# Altium footprint library SIRA99D.PcbLib: 1 footprints
Each footprint in its own frame and in the unit in brackets; x right, y up, seen from the top. Pads: shape width x height; smd on the part's side, far side on the other; paste and mask are expansions set on the pad; w line width, h text height; cw(c..) or ccw(c..) is an arc to the next point about the centre after c.
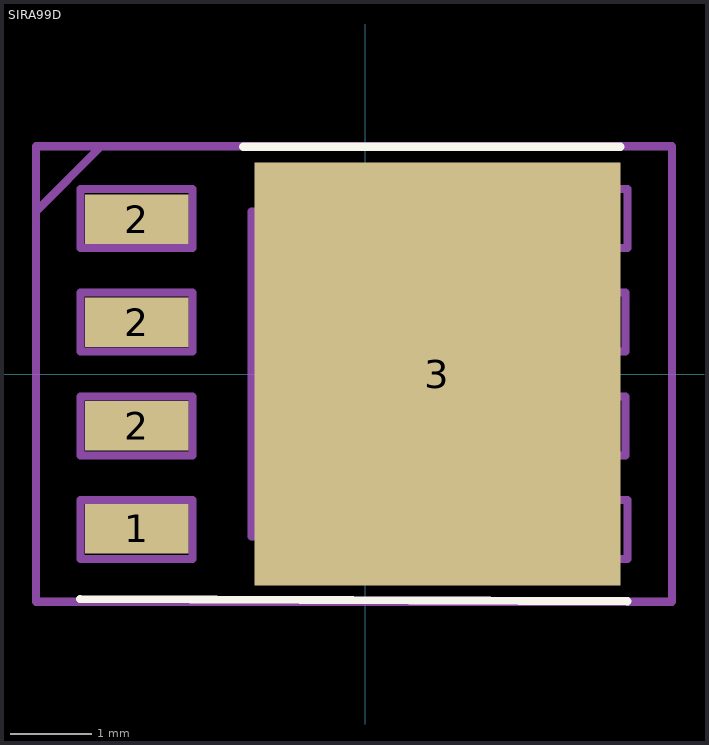
[diagram p0: the footprint, top view; thin cyan lines are the x and y axes]

## SIRA99D [mm]
pads (5):
  rect 1.27x0.61 smd: 1(-2.81,-1.905) 2(-2.81,-0.635) 2(-2.81,0.635) 2(-2.81,1.905)
  rect 4.5x5.2 smd: 3(0.889,0)
Top Overlay:
  lines w0.1: -3.505,-2.769 3.226,-2.794 ; -1.499,2.794 3.14,2.794
Mechanical 3:
  lines w0.1: -4.05,-2.8 -4.05,2 -3.25,2.8 3.775,2.8 3.775,-2.8 -4.05,-2.8
Mechanical 5:
  lines w0.1: 2.1,-2 -1.4,-2 -1.4,2 2.1,2 ; 2.5,-1.55 2.5,-1.388 2.5,-1 ; 2.5,1.55 2.5,1 ; 2.5,-1 3.2,-1 3.2,-0.275 2.5,-0.275 ; 2.5,-1 2.5,-0.275 ; 2.5,-0.275 2.5,0.275 ; 2.5,0.275 3.2,0.275 3.2,1 2.5,1 ; 2.5,0.275 2.5,1 ; -3.5,-2.275 -2.125,-2.275 -2.125,-1.55 -3.5,-1.55 -3.5,-2.275 ; -3.5,-1 -2.125,-1 -2.125,-0.275 -3.5,-0.275 -3.5,-1 ; -3.5,0.275 -2.125,0.275 -2.125,1 -3.5,1 -3.5,0.275 ; -3.5,1.55 -2.125,1.55 -2.125,2.275 -3.5,2.275 -3.5,1.55 ; 2.1,-2.275 3.225,-2.275 3.225,-1.55 2.1,-1.55 2.1,-2.275 ; 2.1,1.55 3.225,1.55 3.225,2.275 2.1,2.275 2.1,1.55
Mechanical 7:
  lines w0.1: -4.05,-2.8 3.775,-2.8 3.775,2.8 -4.05,2.8 -4.05,-2.8
Mechanical 9:
  text "'.Designator'" at -5.898,-0.209 h1.02
3D body: height 0.25, standoff 0, extent -4.05,-2.8 3.775,2.8
3D body "User Library-PowerPAK SO-8 (S).STEP": height 1.04, standoff 0, extent -3.151,-2.585 2.999,2.565